# Altium schematic symbol library amp_special.SchLib: 1 symbol
Pins are listed as number, name and electrical type; pins without a type are passive.

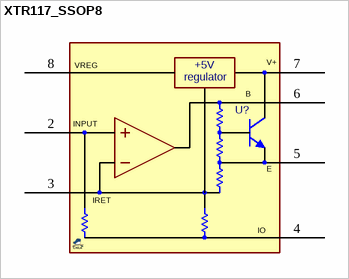
[diagram p0: symbol XTR117_SSOP8]

## XTR117_SSOP8
designator U?, comment XTR117  (value not drawn)
Current Loop transmitter, 4-20mA; MANF: TEXAS INSTRUMENTS; MANF_P#: XTR117AIDGK; PARAM2: 7.5~40Vcc,; PARAM: -45~125°C; PRICE: 0.5$; VALUE: XTR117
footprint SOG65_8_3 (TSSOP8, MICRO8, DGK VSSOP-8, pitch: 0.65mm, 3X3mm, MSOP8, RM-8, MS8, MSOP-8, TSSO3X5-G8/D3.1, 8 uMAX, usop8/8uSOP, MO-187AA, MO-153AA, SSOP DCT (TI))
pins: 2 IIN, 3 IRET, 4 IO, 5 E, 6 B, 7 V+, 8 VREG
text: +5V; regulator; INPUT